# Altium schematic symbol library CAP,Film,1uF,63VDC,Radial.Schlib: 1 symbol
Pins are listed as number, name and electrical type; pins without a type are passive.

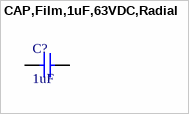
[diagram p0: symbol CAP,Film,1uF,63VDC,Radial]

## CAP,Film,1uF,63VDC,Radial
designator C?, comment 1uF
CAP FILM 1UF 5% 63VDC RADIAL
pins: 1, 2